# Altium footprint library 6903 6728 xx 76.PcbLib: 12 footprints
Each footprint in its own frame and in the unit in brackets; x right, y up, seen from the top. Pads: shape width x height; smd on the part's side, far side on the other; paste and mask are expansions set on the pad; w line width, h text height; cw(c..) or ccw(c..) is an arc to the next point about the centre after c.
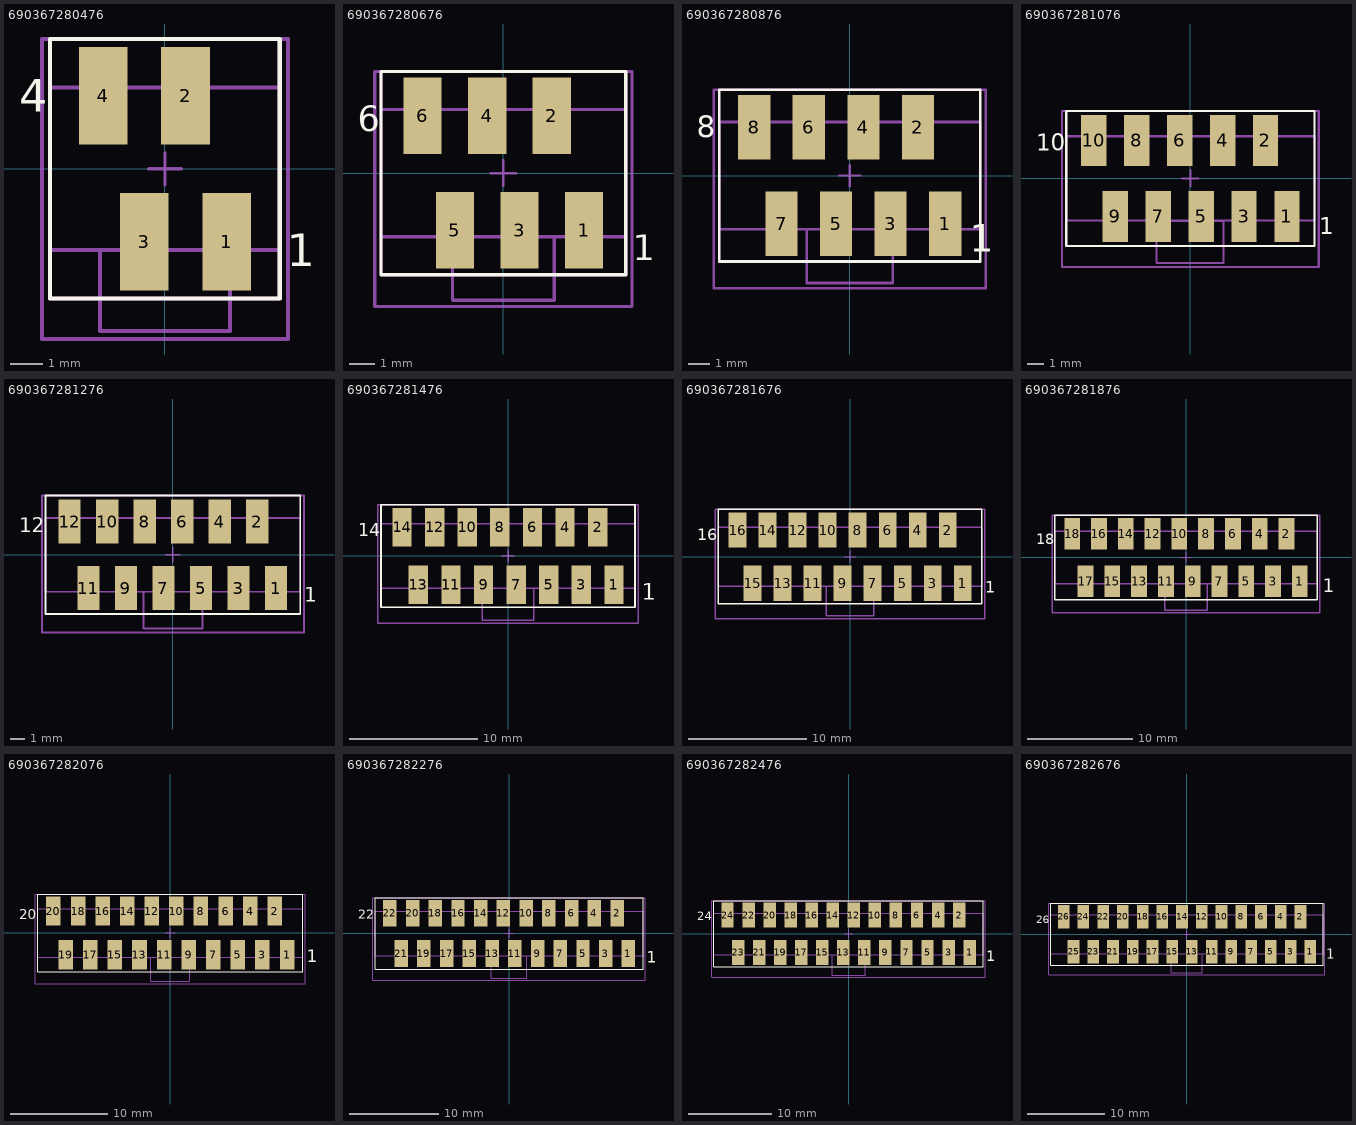
[diagram p0: the footprints below, top view; thin cyan lines are the x and y axes]

## 690367280476 [mm] "without Latch, 4 pins, SMT, straight"
height 5.75
pads (4):
  rect 1.5x3 smd: 1(1.905,-2.25) 2(0.635,2.25) 3(-0.635,-2.25) 4(-1.905,2.25)
Top Overlay:
  lines w0.127: -3.54,-4 3.54,-4 3.54,4 -3.54,4 -3.54,-4
  text "1" at 3.75,-3 h1
  text "4" at -4.5,1.75 h1
Mechanical 13:
  lines w0.127: -2.47,-2.5 2.73,-2.5 ; -3.54,-2.5 -3.54,2.5 3.54,2.5 3.54,-2.5 2,-2.5 2,-5 -2,-5 -2,-2.5 -3.54,-2.5
Mechanical 15:
  lines w0.1: -0.5,0 0.5,0 ; 0,-0.5 0,0.5
  lines w0.127: -3.79,-5.25 -3.79,4 3.79,4 3.79,-5.25 -3.79,-5.25
Mechanical 27:
  text ".Comment" at -2.1,-0.05 h1
Mechanical 29:
  text ".Designator" at -2.075,-0.05 h1
Mechanical 31:
  lines w0.127: -3.54,-4 -3.54,4 3.54,4 3.54,-4 -3.54,-4
3D body: height 5.7, standoff -0.05, extent -3.54,-5 3.54,3.5

## 690367280676 [mm] "without Latch, 6 pins, SMT, straight"
height 5.75
pads (6):
  rect 1.5x3 smd: 1(3.175,-2.25) 2(1.905,2.25) 3(0.635,-2.25) 4(-0.635,2.25) 5(-1.905,-2.25) 6(-3.175,2.25)
Top Overlay:
  lines w0.127: -4.81,-4 -4.81,4 4.81,4 4.81,-4 -4.81,-4
  text "1" at 5.08,-3.429 h1
  text "6" at -5.715,1.651 h1
Mechanical 13:
  lines w0.127: -4.81,-2.5 -4.81,2.5 4.81,2.5 4.81,-2.5 -4.81,-2.5 ; -2,-5 2,-5 2,-2.502 -2,-2.502 -2,-5
Mechanical 15:
  lines w0.1: -0.5,0 0.5,0 ; 0,-0.5 0,0.5
  lines w0.127: -5.06,-5.25 5.06,-5.25 5.06,4 -5.06,4 -5.06,-5.25
Mechanical 27:
  text ".Comment" at -2.1,-0.05 h1
Mechanical 29:
  text ".Designator" at -2.075,-0.05 h1
Mechanical 31:
  lines w0.127: -4.81,-4 -4.81,4 4.81,4 4.81,-4 -4.81,-4
3D body: height 5.75, standoff 0, extent -4.81,-5 4.81,3.5

## 690367280876 [mm] "without Latch, 8 pins, SMT, straight"
height 5.75
pads (8):
  rect 1.5x3 smd: 1(4.445,-2.25) 2(3.175,2.25) 3(1.905,-2.25) 4(0.635,2.25) 5(-0.635,-2.25) 6(-1.905,2.25) 7(-3.175,-2.25) 8(-4.445,2.25)
Top Overlay:
  lines w0.127: -6.08,-4 -6.08,4 6.08,4 6.08,-4 -6.08,-4
  text "8" at -7.112,1.778 h1
  text "1" at 5.588,-3.556 h1.27
Mechanical 13:
  lines w0.127: -2,-2.5 -2,-5 2,-5 2,-2.5 ; -6.08,-2.5 6.08,-2.5 6.08,2.5 -6.08,2.5 -6.08,-2.5
Mechanical 15:
  lines w0.1: -0.5,0 0.5,0 ; 0,-0.5 0,0.5
  lines w0.127: -6.33,-5.25 6.33,-5.25 6.33,4 -6.33,4 -6.33,-5.25
3D body: height 5.75, standoff 0, extent -6.08,-5 6.08,3.5

## 690367281076 [mm] "without Latch, 10 pins, SMT, straight"
height 5.75
pads (10):
  rect 1.5x3 smd: 1(5.715,-2.25) 2(4.445,2.25) 3(3.175,-2.25) 4(1.905,2.25) 5(0.635,-2.25) 6(-0.635,2.25) 7(-1.905,-2.25) 8(-3.175,2.25) 9(-4.445,-2.25) 10(-5.715,2.25)
Top Overlay:
  lines w0.127: -7.35,-4 7.35,-4 7.35,4 -7.35,4 -7.35,-4
  text "1" at 7.62,-3.302 h1
  text "10" at -9.144,1.651 h1
Mechanical 13:
  lines w0.127: -7.35,-2.5 -7.35,2.5 7.35,2.5 7.35,-2.5 -7.35,-2.5 ; -2,-5 1.965,-5 1.965,-2.507 -2,-2.507 -2,-5
Mechanical 15:
  lines w0.1: -0.5,0 0.5,0 ; 0,-0.5 0,0.5
  lines w0.127: -7.6,-5.25 -7.6,4 7.6,4 7.6,-5.25 -7.6,-5.25
3D body: height 5.7, standoff -0.05, extent -7.35,-5 7.35,3.5

## 690367281276 [mm] "without Latch, 12 pins, SMT, straight"
height 5.75
pads (12):
  rect 1.5x3 smd: 1(6.985,-2.25) 2(5.715,2.25) 3(4.445,-2.25) 4(3.175,2.25) 5(1.905,-2.25) 6(0.635,2.25) 7(-0.635,-2.25) 8(-1.905,2.25) 9(-3.175,-2.25) 10(-4.445,2.25) 11(-5.715,-2.25) 12(-6.985,2.25)
Top Overlay:
  lines w0.127: -8.62,-4 -8.62,4 8.62,4 8.62,-4 -8.62,-4
  text "12" at -10.414,1.524 h1
  text "1" at 8.89,-3.175 h1
Mechanical 13:
  lines w0.127: -2,-2.507 -2,-5 2,-5 2,-2.507 ; -8.62,-2.5 8.62,-2.5 8.62,2.5 -8.62,2.5 -8.62,-2.5
Mechanical 15:
  lines w0.1: -0.5,0 0.5,0 ; 0,-0.5 0,0.5
  lines w0.127: -8.87,-5.25 -8.87,4 8.87,4 8.87,-5.25 -8.87,-5.25
3D body: height 5.75, standoff 0, extent -8.62,-5 8.62,3.5

## 690367281476 [mm] "without Latch, 14 pins, SMT, straight"
height 5.75
pads (14):
  rect 1.5x3 smd: 1(8.255,-2.25) 2(6.985,2.25) 3(5.715,-2.25) 4(4.445,2.25) 5(3.175,-2.25) 6(1.905,2.25) 7(0.635,-2.25) 8(-0.635,2.25) 9(-1.905,-2.25) 10(-3.175,2.25) 11(-4.445,-2.25) 12(-5.715,2.25) 13(-6.985,-2.25) 14(-8.255,2.25)
Top Overlay:
  lines w0.127: -9.89,-4 9.89,-4 9.89,4 -9.89,4 -9.89,-4
  text "14" at -11.684,1.524 h1
  text "1" at 10.414,-3.429 h1.27
Mechanical 13:
  lines w0.127: -2,-2.487 -2,-5 1.992,-5 1.992,-2.487 ; -9.89,-2.5 9.89,-2.5 9.89,2.5 -9.89,2.5 -9.89,-2.5
Mechanical 15:
  lines w0.1: -0.5,0 0.5,0 ; 0,-0.5 0,0.5
  lines w0.127: -10.14,-5.25 -10.14,4 10.14,4 10.14,-5.25 -10.14,-5.25
3D body: height 5.75, standoff 0, extent -9.89,-5 9.89,3.5

## 690367281676 [mm] "without Latch, 16 pins, SMT, straight"
height 5.75
pads (16):
  rect 1.5x3 smd: 1(9.525,-2.25) 2(8.255,2.25) 3(6.985,-2.25) 4(5.715,2.25) 5(4.445,-2.25) 6(3.175,2.25) 7(1.905,-2.25) 8(0.635,2.25) 9(-0.635,-2.25) 10(-1.905,2.25) 11(-3.175,-2.25) 12(-4.445,2.25) 13(-5.715,-2.25) 14(-6.985,2.25) 15(-8.255,-2.25) 16(-9.525,2.25)
Top Overlay:
  lines w0.127: -11.16,-4 -11.16,4 11.16,4 11.16,-4 -11.16,-4
  text "1" at 11.43,-3.048 h1
  text "16" at -12.954,1.397 h1
Mechanical 13:
  lines w0.127: -2,-2.497 -2,-5 2,-5 2,-2.497 ; -11.16,-2.5 -11.16,2.5 11.16,2.5 11.16,-2.5 -11.16,-2.5
Mechanical 15:
  lines w0.1: -0.5,0 0.5,0 ; 0,-0.5 0,0.5
  lines w0.127: -11.41,-5.25 11.41,-5.25 11.41,4 -11.41,4 -11.41,-5.25
3D body: height 5.75, standoff 0, extent -11.16,-5 11.16,3.5

## 690367281876 [mm] "without Latch, 18 pins, SMT, straight"
height 5.75
pads (18):
  rect 1.5x3 smd: 1(10.795,-2.25) 2(9.525,2.25) 3(8.255,-2.25) 4(6.985,2.25) 5(5.715,-2.25) 6(4.445,2.25) 7(3.175,-2.25) 8(1.905,2.25) 9(0.635,-2.25) 10(-0.635,2.25) 11(-1.905,-2.25) 12(-3.175,2.25) 13(-4.445,-2.25) 14(-5.715,2.25) 15(-6.985,-2.25) 16(-8.255,2.25) 17(-9.525,-2.25) 18(-10.795,2.25)
Top Overlay:
  lines w0.127: -12.43,-4 -12.43,4 12.43,4 12.43,-4 -12.43,-4
  text "1" at 12.954,-3.302 h1.27
  text "18" at -14.224,1.27 h1
Mechanical 13:
  lines w0.127: -2,-5 1.992,-5 ; -2,-2.497 -2,-5.004 1.992,-5.004 ; 2,-5 2,-2.497 ; -12.43,-2.5 -12.43,2.5 12.43,2.5 12.43,-2.5 -12.43,-2.5
Mechanical 15:
  lines w0.1: -0.5,0 0.5,0 ; 0,-0.5 0,0.5
  lines w0.127: -12.68,-5.25 12.68,-5.25 12.68,4 -12.68,4 -12.68,-5.25
3D body: height 5.75, standoff 0, extent -12.43,-5 12.43,3.5

## 690367282076 [mm] "without Latch, 20 pins, SMT, straight"
height 5.75
pads (20):
  rect 1.5x3 smd: 1(12.065,-2.25) 2(10.795,2.25) 3(9.525,-2.25) 4(8.255,2.25) 5(6.985,-2.25) 6(5.715,2.25) 7(4.445,-2.25) 8(3.175,2.25) 9(1.905,-2.25) 10(0.635,2.25) 11(-0.635,-2.25) 12(-1.905,2.25) 13(-3.175,-2.25) 14(-4.445,2.25) 15(-5.715,-2.25) 16(-6.985,2.25) 17(-8.255,-2.25) 18(-9.525,2.25) 19(-10.795,-2.25) 20(-12.065,2.25)
Top Overlay:
  lines w0.127: -13.7,-4 -13.7,4 13.7,4 13.7,-4 -13.7,-4
  text "20" at -15.621,1.397 h1
  text "1" at 14.097,-3.048 h1.27
Mechanical 13:
  lines w0.127: -2,-2.497 -2,-5 2,-5 2,-2.497 ; -13.7,-2.5 13.7,-2.5 13.7,2.5 -13.7,2.5 -13.7,-2.5
Mechanical 15:
  lines w0.1: -0.5,0 0.5,0 ; 0,-0.5 0,0.5
  lines w0.127: -13.95,-5.25 -13.95,4 13.95,4 13.95,-5.25 -13.95,-5.25
3D body: height 5.75, standoff 0, extent -13.7,-5 13.7,3.5

## 690367282276 [mm] "without Latch, 22 pins, SMT, straight"
height 5.75
pads (22):
  rect 1.5x3 smd: 1(13.335,-2.25) 2(12.065,2.25) 3(10.795,-2.25) 4(9.525,2.25) 5(8.255,-2.25) 6(6.985,2.25) 7(5.715,-2.25) 8(4.445,2.25) 9(3.175,-2.25) 10(1.905,2.25) 11(0.635,-2.25) 12(-0.635,2.25) 13(-1.905,-2.25) 14(-3.175,2.25) 15(-4.445,-2.25) 16(-5.715,2.25) 17(-6.985,-2.25) 18(-8.255,2.25) 19(-9.525,-2.25) 20(-10.795,2.25) 21(-12.065,-2.25) 22(-13.335,2.25)
Top Overlay:
  lines w0.127: -14.97,-4 14.97,-4 14.97,4 -14.97,4 -14.97,-4
  text "1" at 15.367,-3.302 h1.27
  text "22" at -16.891,1.651 h1
Mechanical 13:
  lines w0.127: -2,-2.497 -2,-5.004 ; 1.992,-4.057 1.992,-5.004 ; 1.992,-2.497 1.992,-5.004 ; -2,-5.004 1.992,-5.004 ; -2,-5.004 1.992,-5.004 ; -14.97,-2.5 -14.97,2.5 14.97,2.5 14.97,-2.5 -14.97,-2.5
Mechanical 15:
  lines w0.1: -0.5,0 0.5,0 ; 0,-0.5 0,0.5
  lines w0.127: -15.22,-5.25 15.22,-5.25 15.22,4 -15.22,4 -15.22,-5.25
3D body: height 5.75, standoff 0, extent -14.97,-5 14.97,3.5

## 690367282476 [mm] "without Latch, 24 pins, SMT, straight"
height 5.75
pads (24):
  rect 1.5x3 smd: 1(14.605,-2.25) 2(13.335,2.25) 3(12.065,-2.25) 4(10.795,2.25) 5(9.525,-2.25) 6(8.255,2.25) 7(6.985,-2.25) 8(5.715,2.25) 9(4.445,-2.25) 10(3.175,2.25) 11(1.905,-2.25) 12(0.635,2.25) 13(-0.635,-2.25) 14(-1.905,2.25) 15(-3.175,-2.25) 16(-4.445,2.25) 17(-5.715,-2.25) 18(-6.985,2.25) 19(-8.255,-2.25) 20(-9.525,2.25) 21(-10.795,-2.25) 22(-12.065,2.25) 23(-13.335,-2.25) 24(-14.605,2.25)
Top Overlay:
  lines w0.127: -16.24,-4 16.24,-4 16.24,4 -16.24,4 -16.24,-4
  text "1" at 16.637,-3.302 h1.27
  text "24" at -18.288,1.651 h1
Mechanical 13:
  lines w0.127: -2,-2.497 -2,-5 2,-5 2,-2.5 ; -16.24,-2.5 -16.24,2.5 16.24,2.5 16.24,-2.5 -16.24,-2.5
Mechanical 15:
  lines w0.1: -0.5,0 0.5,0 ; 0,-0.5 0,0.5
  lines w0.127: -16.49,-5.25 16.49,-5.25 16.49,4 -16.49,4 -16.49,-5.25
3D body: height 5.75, standoff 0, extent -16.24,-5 16.24,3.5

## 690367282676 [mm] "without Latch, 26 pins, SMT, straight"
height 5.75
pads (26):
  rect 1.5x3 smd: 1(15.875,-2.25) 2(14.605,2.25) 3(13.335,-2.25) 4(12.065,2.25) 5(10.795,-2.25) 6(9.525,2.25) 7(8.255,-2.25) 8(6.985,2.25) 9(5.715,-2.25) 10(4.445,2.25) 11(3.175,-2.25) 12(1.905,2.25) 13(0.635,-2.25) 14(-0.635,2.25) 15(-1.905,-2.25) 16(-3.175,2.25) 17(-4.445,-2.25) 18(-5.715,2.25) 19(-6.985,-2.25) 20(-8.255,2.25) 21(-9.525,-2.25) 22(-10.795,2.25) 23(-12.065,-2.25) 24(-13.335,2.25) 25(-14.605,-2.25) 26(-15.875,2.25)
Top Overlay:
  lines w0.127: -17.51,-4 -17.51,4 17.51,4 17.51,-4 -17.51,-4
  text "1" at 17.907,-3.175 h1.27
  text "26" at -19.431,1.397 h1
Mechanical 13:
  lines w0.127: -2,-2.497 -2,-5 1.992,-5 1.992,-2.497 ; -17.51,-2.5 -17.51,2.5 17.51,2.5 17.51,-2.5 -17.51,-2.5
Mechanical 15:
  lines w0.1: -0.5,0 0.5,0 ; 0,-0.5 0,0.5
  lines w0.127: -17.76,-5.25 -17.76,4 17.76,4 17.76,-5.25 -17.76,-5.25
3D body: height 5.75, standoff 0, extent -17.51,-5 17.51,3.5